# Altium footprint library TLV9002.PcbLib: 2 footprints
Each footprint in its own frame and in the unit in brackets; x right, y up, seen from the top. Pads: shape width x height; smd on the part's side, far side on the other; paste and mask are expansions set on the pad; w line width, h text height; cw(c..) or ccw(c..) is an arc to the next point about the centre after c.
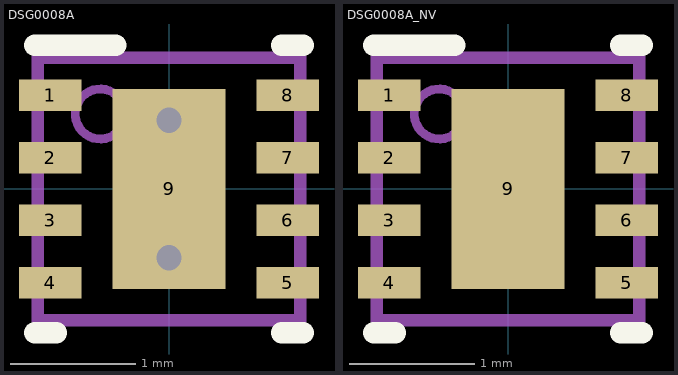
[diagram p0: the footprints below, top view; thin cyan lines are the x and y axes]

## DSG0008A [mm]
pads (11):
  rect 0.5x0.25 smd: 1(-0.95,0.75) 2(-0.95,0.25) 3(-0.95,-0.25) 4(-0.95,-0.75) 5(0.95,-0.75) 6(0.95,-0.25) 7(0.95,0.25) 8(0.95,0.75)
  rect 0.9x1.6 smd: 9(0,0)
  round 0 hole 0.203 mask-25.4: 10(0,0.55) 11(0,-0.55)
Top Overlay:
  lines w0.17: -1.075,-1.15 -0.9,-1.15 ; -1.075,1.15 -0.425,1.15 ; 0.9,-1.15 1.075,-1.15 ; 0.9,1.15 1.075,1.15
Top Solder:
  region: 0,0.876 -0.125,0.851 -0.231,0.781 -0.301,0.675 -0.326,0.55 -0.301,0.425 -0.231,0.319 -0.125,0.249 0,0.224 0.125,0.249 0.231,0.319 0.301,0.425 0.326,0.55 0.301,0.675 0.231,0.781 0.125,0.851
  region: 0,-0.224 -0.125,-0.249 -0.231,-0.319 -0.301,-0.425 -0.326,-0.55 -0.301,-0.675 -0.231,-0.781 -0.125,-0.851 0,-0.876 0.125,-0.851 0.231,-0.781 0.301,-0.675 0.326,-0.55 0.301,-0.425 0.231,-0.319 0.125,-0.249
Bottom Solder:
  region: 0,0.876 -0.125,0.851 -0.231,0.781 -0.301,0.675 -0.326,0.55 -0.301,0.425 -0.231,0.319 -0.125,0.249 0,0.224 0.125,0.249 0.231,0.319 0.301,0.425 0.326,0.55 0.301,0.675 0.231,0.781 0.125,0.851
  region: 0,-0.224 -0.125,-0.249 -0.231,-0.319 -0.301,-0.425 -0.326,-0.55 -0.301,-0.675 -0.231,-0.781 -0.125,-0.851 0,-0.876 0.125,-0.851 0.231,-0.781 0.301,-0.675 0.326,-0.55 0.301,-0.425 0.231,-0.319 0.125,-0.249
Outline:
  circle w0.07: c-0.55,0.6 r0.2
  lines w0.1: -1.05,-1.05 -1.05,1.05 1.05,1.05 1.05,-1.05 -1.05,-1.05
  text ".Designator" at -0.925,-0.25 h0.79
Courtyard Bottom:
  circle w0.07: c-0.55,0.6 r0.2
  lines w0.1: -1.05,-1.05 -1.05,1.05 1.05,1.05 1.05,-1.05 -1.05,-1.05
  text ".Designator" at -0.925,-0.25 h0.79

## DSG0008A_NV [mm]
pads (9):
  rect 0.5x0.25 all layers, no hole: 1(-0.95,0.75) 2(-0.95,0.25) 3(-0.95,-0.25) 4(-0.95,-0.75) 5(0.95,-0.75) 6(0.95,-0.25) 7(0.95,0.25) 8(0.95,0.75)
  rect 0.9x1.6 all layers, no hole: 9(0,0)
Top Overlay:
  lines w0.17: -1.075,-1.15 -0.9,-1.15 ; -1.075,1.15 -0.425,1.15 ; 0.9,-1.15 1.075,-1.15 ; 0.9,1.15 1.075,1.15
Outline:
  circle w0.07: c-0.55,0.6 r0.2
  lines w0.1: -1.05,-1.05 1.05,-1.05 1.05,1.05 -1.05,1.05 -1.05,-1.05
  text ".Designator" at -0.925,-0.25 h0.79
Courtyard Bottom:
  circle w0.07: c-0.55,0.6 r0.2
  lines w0.1: -1.05,-1.05 1.05,-1.05 1.05,1.05 -1.05,1.05 -1.05,-1.05
  text ".Designator" at -0.925,-0.25 h0.79